# Altium schematic symbol library G3VM-61VY3(TR05).SchLib: 1 symbol
Pins are listed as number, name and electrical type; pins without a type are passive.

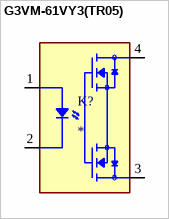
[diagram p0: symbol G3VM-61VY3(TR05)]

## G3VM-61VY3(TR05)
designator K?
Solid State SPST-NO (1 Form A) 4-SOP (0.179, 4.55mm); MF: Omron Electronics Inc-EMC Div; MP: G3VM-61VY3(TR05); Check_prices: https://www.snapeda.com/parts/G3VM-61VY3(TR05)/Omron+Electronics+Inc-EMC+Div/view-part/?ref=eda; Value: *; Purchase-URL: https://pricing.snapeda.com/search/part/G3VM-61VY3(TR05)/?ref=eda; Price: None; SnapEDA_Link: https://www.snapeda.com/parts/G3VM-61VY3(TR05)/Omron+Electronics+Inc-EMC+Div/view-part/?ref=snap; Availability: In Stock; Package: SOP-4 Omron Electronics Inc-EMC Div
footprint RELAY_G3VM-61VY3(TR05)
footprint RELAY_G3VM-61VY3(TR05)
pins: 1 A, 2 C, 3 D2, 4 D1